# EAGLE library part MCP2515-X/SO (library custom)
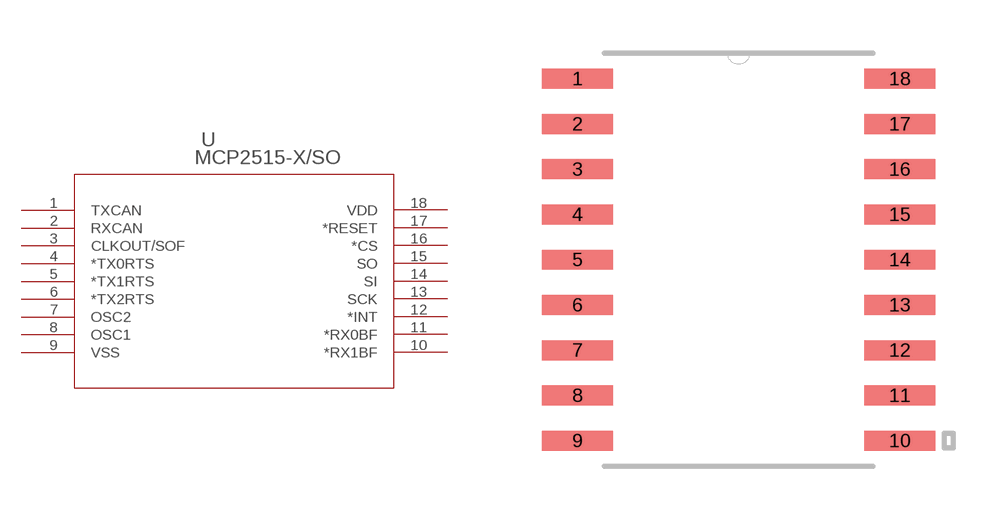
[diagram p5: symbol with the pads of SOIC18-W_MC; footprint SOIC18-W_MC]

Designator prefix U

## MCP2515-X/SO  [SOIC18-W_MC]
1  TXCAN  pas
2  RXCAN  pas
3  CLKOUT/SOF  pas
4  *TX0RTS  pas
5  *TX1RTS  pas
6  *TX2RTS  pas
7  OSC2  pas
8  OSC1  pas
9  VSS  pas
10  *RX1BF  pas
11  *RX0BF  pas
12  *INT  pas
13  SCK  pas
14  SI  pas
15  SO  pas
16  *CS  pas
17  *RESET  pas
18  VDD  pas

## Footprint SOIC18-W_MC (pad centres in mm)
smd 1.981 x 0.559: 1 -4.521,5.08; 2 -4.521,3.81; 3 -4.521,2.54; 4 -4.521,1.27; 5 -4.521,0; 6 -4.521,-1.27; 7 -4.521,-2.54; 8 -4.521,-3.81; 9 -4.521,-5.08; 10 4.521,-5.08; 11 4.521,-3.81; 12 4.521,-2.54; 13 4.521,-1.27; 14 4.521,0; 15 4.521,1.27; 16 4.521,2.54; 17 4.521,3.81; 18 4.521,5.08